# EAGLE library part 3PDT_MOUNTED (library _3pdt)
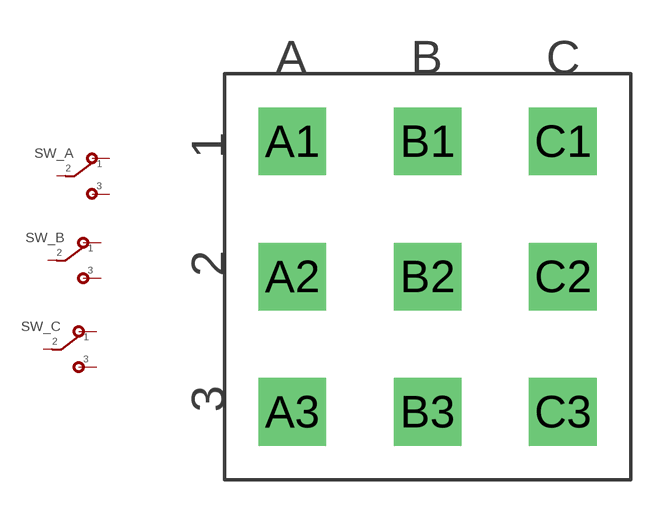
[diagram p1: symbol with the pads of 3PDT_MOUNTED; footprint 3PDT_MOUNTED]

Designator prefix SW; gates _A=3PDT_ALT _B=3PDT_ALT _C=3PDT_ALT

## 3PDT_MOUNTED  [3PDT_MOUNTED]
A1  _A:P$1
A2  _A:P$2
A3  _A:P$3
B1  _B:P$1
B2  _B:P$2
B3  _B:P$3
C1  _C:P$1
C2  _C:P$2
C3  _C:P$3

## Footprint 3PDT_MOUNTED (pad centres in mm)
drill 1 pad 2.54 square: A1 -5.08,5.08; A2 -5.08,0; A3 -5.08,-5.08; B1 0,5.08; B2 0,0; B3 0,-5.08; C1 5.08,5.08; C2 5.08,0; C3 5.08,-5.08